# Altium schematic symbol library Connectors.SchLib: 29 symbols
Pins are listed as number, name and electrical type; pins without a type are passive.

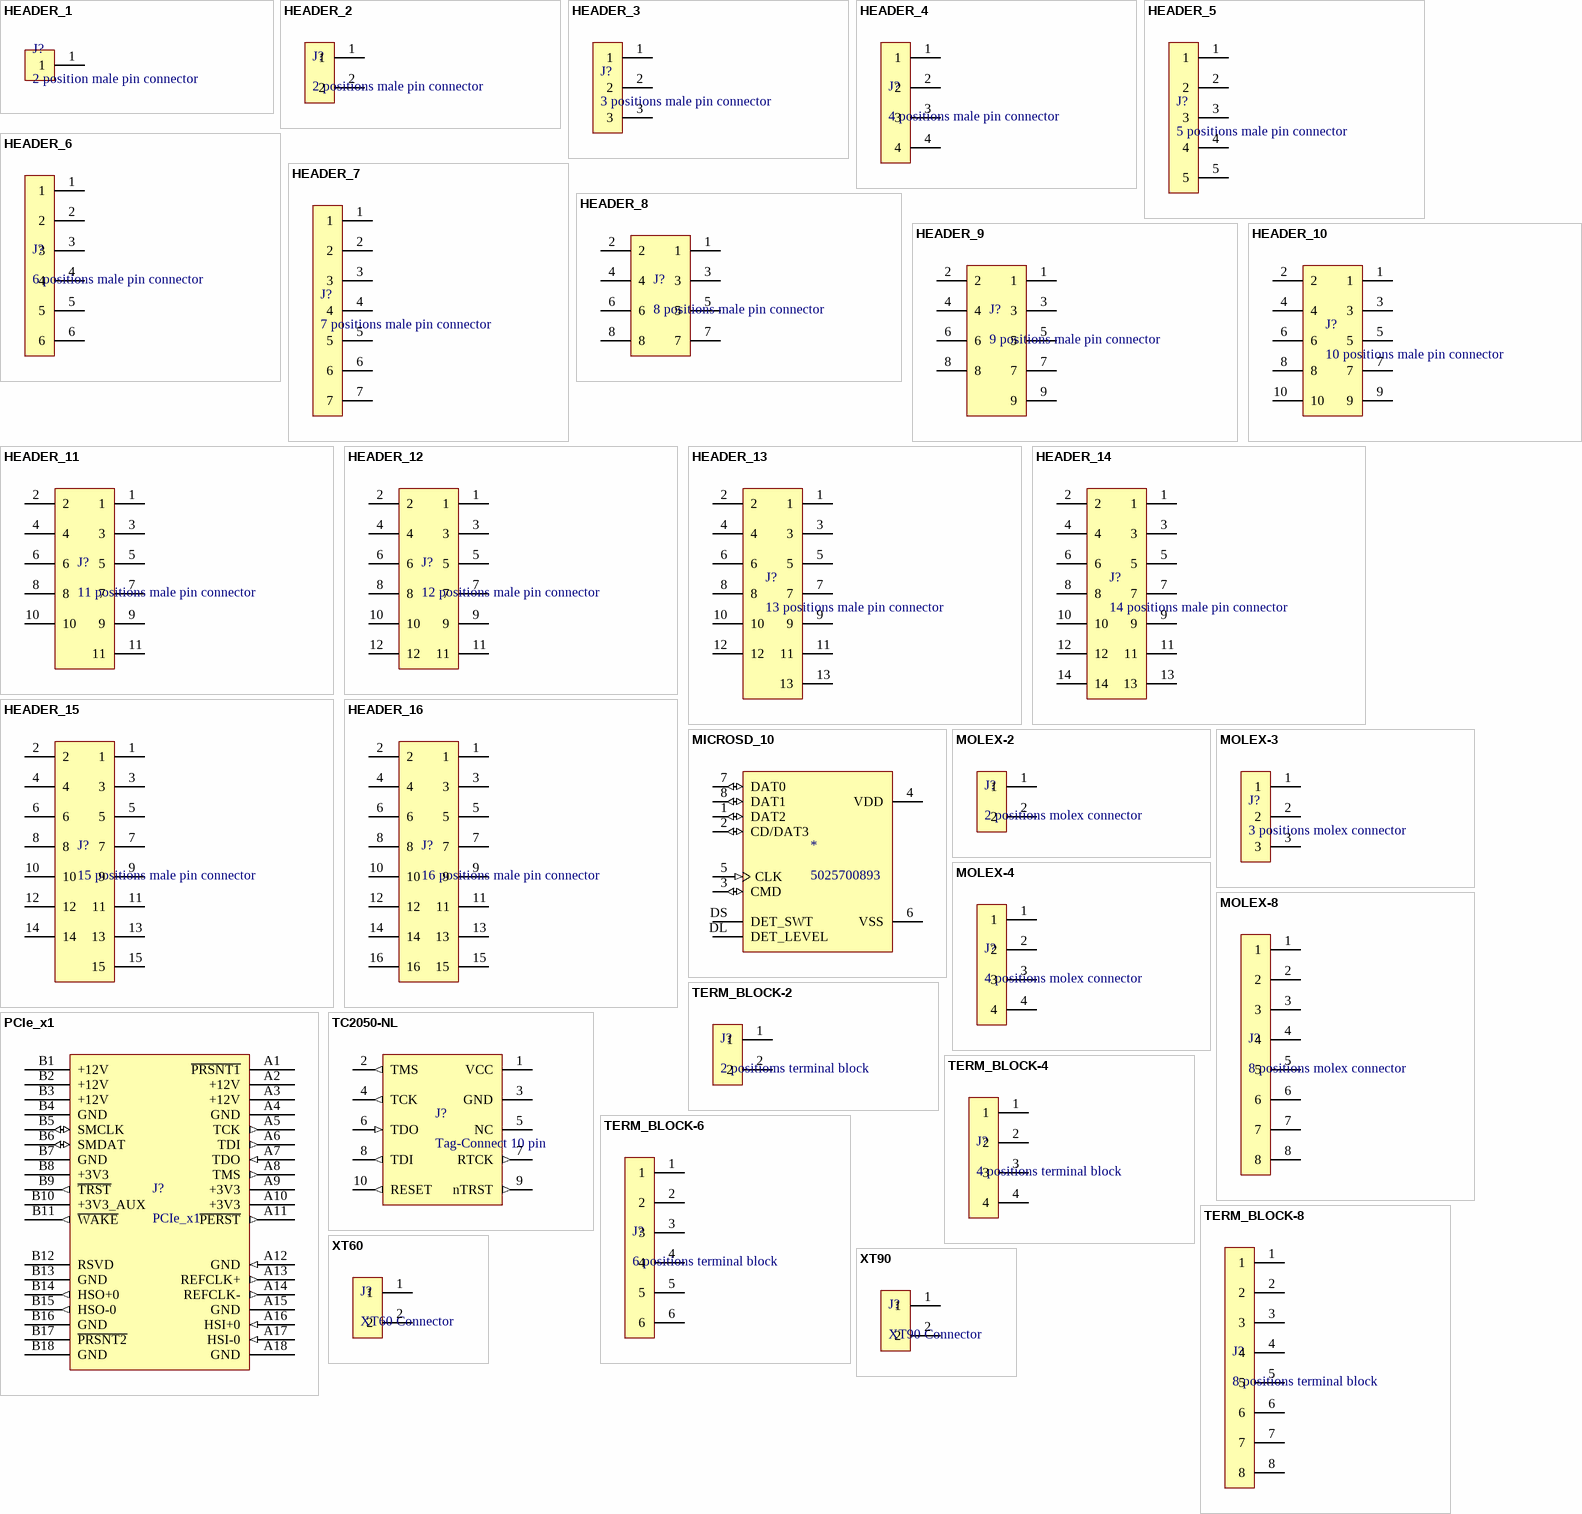
[diagram p0: symbols HEADER_1 to XT90]

## HEADER_1
designator J?, comment 2 position male pin connector
footprint HEADER-1_100MIL (Based on 68000-101HLF)
pins: 1

## HEADER_2
designator J?, comment 2 positions male pin connector
footprint HEADER-2_100MIL
pins: 1, 2

## HEADER_3
designator J?, comment 3 positions male pin connector
footprint HEADER-3_100MIL
pins: 1, 2, 3

## HEADER_4
designator J?, comment 4 positions male pin connector
footprint HEADER-4_100MIL
pins: 1, 2, 3, 4

## HEADER_5
designator J?, comment 5 positions male pin connector
footprint HEADER-5_100MIL
pins: 1, 2, 3, 4, 5

## HEADER_6
designator J?, comment 6 positions male pin connector
footprint HEADER-6_100MIL
pins: 1, 2, 3, 4, 5, 6

## HEADER_7
designator J?, comment 7 positions male pin connector
footprint HEADER-7_100MIL
pins: 1, 2, 3, 4, 5, 6, 7

## HEADER_8
designator J?, comment 8 positions male pin connector
footprint HEADER-8_100MIL
pins: 1, 2, 3, 4, 5, 6, 7, 8

## HEADER_9
designator J?, comment 9 positions male pin connector
footprint HEADER-9_100MIL
pins: 1, 2, 3, 4, 5, 6, 7, 8, 9

## HEADER_10
designator J?, comment 10 positions male pin connector
footprint HEADER-10_100MIL
pins: 1, 2, 3, 4, 5, 6, 7, 8, 9, 10

## HEADER_11
designator J?, comment 11 positions male pin connector
footprint HEADER-11_100MIL
pins: 1, 2, 3, 4, 5, 6, 7, 8, 9, 10, 11

## HEADER_12
designator J?, comment 12 positions male pin connector
footprint HEADER-12_100MIL
pins: 1, 2, 3, 4, 5, 6, 7, 8, 9, 10, 11, 12

## HEADER_13
designator J?, comment 13 positions male pin connector
footprint HEADER-13_100MIL
pins: 1, 2, 3, 4, 5, 6, 7, 8, 9, 10, 11, 12, 13

## HEADER_14
designator J?, comment 14 positions male pin connector
footprint HEADER-14_100MIL
pins: 1, 2, 3, 4, 5, 6, 7, 8, 9, 10, 11, 12, 13, 14

## HEADER_15
designator J?, comment 15 positions male pin connector
footprint HEADER-15_100MIL
pins: 1, 2, 3, 4, 5, 6, 7, 8, 9, 10, 11, 12, 13, 14, 15

## HEADER_16
designator J?, comment 16 positions male pin connector
footprint HEADER-16_100MIL
pins: 1, 2, 3, 4, 5, 6, 7, 8, 9, 10, 11, 12, 13, 14, 15, 16

## MICROSD_10
designator *, comment 5025700893
10 (8 + 2) Position Card Connector Secure Digital - microSD™ Surface Mount, Right Angle Gold
footprint MICROSD_5025700893
pins: 1 DAT2 (io), 2 CD/DAT3 (io), 3 CMD (io), 4 VDD (power), 5 CLK (in), 6 VSS (power), 7 DAT0 (io), 8 DAT1 (io), DL DET_LEVEL, DS DET_SWT

## MOLEX-2
designator J?, comment 2 positions molex connector
footprint MOLEX-2_2.5mm_RA (2.5mm MOLEX 2-pins Right-Angle Connector, based on 0022057025)
footprint MOLEX-2_2.5mm (2.5mm MOLEX 2-pins Connector, based on 0022035025)
pins: 1, 2

## MOLEX-3
designator J?, comment 3 positions molex connector
footprint MOLEX-3_2.5mm_RA (2.5mm MOLEX 3-pins Right-Angle Connector, based on 0022057035)
footprint MOLEX-3_2.5mm (2.5mm MOLEX 3-pins Connector, based on 0022035035)
pins: 1, 2, 3

## MOLEX-4
designator J?, comment 4 positions molex connector
footprint MOLEX-4_2.5mm_RA (2.5mm MOLEX 4-pins Right-Angle Connector, based on 0022057045)
footprint MOLEX-4_2.5mm (2.5mm MOLEX 4-pins Connector, based on 0022035045)
pins: 1, 2, 3, 4

## MOLEX-8
designator J?, comment 8 positions molex connector
footprint MOLEX-8_2.5mm_RA (2.5mm MOLEX 8-pins Right-Angle Connector, based on 0022057085)
footprint MOLEX-8_2.5mm (2.5mm MOLEX 8-pins Connector, based on 0022035085)
pins: 1, 2, 3, 4, 5, 6, 7, 8

## PCIe_x1
designator J?
footprint PCIe_x1 (https://tools.molex.com/pdm_docs/sd/877159006_sd.pdf)
pins: A1 ~{PRSNT1}, A2 +12V (power), A3 +12V (power), A4 GND (power), A5 TCK (out), A6 TDI (out), A7 TDO (in), A8 TMS (out), A9 +3V3 (power), A10 +3V3 (power), A11 ~{PERST} (out), A12 GND (in), A13 REFCLK+ (out), A14 REFCLK- (out), A15 GND (power), A16 HSI+0 (in), A17 HSI-0 (in), A18 GND (power), B1 +12V (power), B2 +12V (power), B3 +12V (power), B4 GND (power), B5 SMCLK (io), B6 SMDAT (io), B7 GND (power), B8 +3V3 (power), B9 ~{TRST} (out), B10 +3V3_AUX (power), B11 ~{WAKE} (out), B12 RSVD, B13 GND (power), B14 HSO+0 (out), B15 HSO-0 (out), B16 GND (power), B17 ~{PRSNT2}, B18 GND (power)

## TC2050-NL
designator J?, comment Tag-Connect 10 pin
footprint TC2050-NL (Target for Tag Copnnect TC2050-xxx-NL)
pins: 1 VCC (power), 2 TMS (out), 3 GND (power), 4 TCK (out), 5 NC, 6 TDO (in), 7 RTCK (out), 8 TDI (out), 9 nTRST (out), 10 RESET (out)

## TERM_BLOCK-2
designator J?, comment 2 positioms terminal block
footprint TERM-2_90_100MIL (Screw-in 2 pos Terminal Block 90deg 100mil pitch, based on 1725656)
footprint TERM-2_45_2.5MM_SC (Spring-Cage 2 pos Terminal Block 45deg entry 2.5mm pitch, based on 1989748)
pins: 1, 2

## TERM_BLOCK-4
designator J?, comment 4 positions terminal block
footprint TERM-4_90_100MIL (Screw-in 4 pos Terminal Block 90deg 100mil pitch, based on 1725672)
footprint TERM-4_45_2.5MM_SC (Spring-Cage 4 pos Terminal Block 45deg entry 2.5mm pitch, based on 1989764)
pins: 1, 2, 3, 4

## TERM_BLOCK-6
designator J?, comment 6 positions terminal block
footprint TERM-6_90_100MIL (Screw-in 6 pos Terminal Block 90deg 100mil pitch, based on 1725698)
footprint TERM-6_45_2.5MM_SC (Spring-Cage 6 pos Terminal Block 45deg entry 2.5mm pitch, based on 1989780)
pins: 1, 2, 3, 4, 5, 6

## TERM_BLOCK-8
designator J?, comment 8 positions terminal block
footprint TERM-8_90_100MIL (Screw-in 8 pos Terminal Block 90deg 100mil pitch, based on 1725711)
footprint TERM-8_45_2.5MM_SC (Spring-Cage 8 pos Terminal Block 45deg entry 2.5mm pitch, based on 1989803)
pins: 1, 2, 3, 4, 5, 6, 7, 8

## XT60
designator J?, comment XT60 Connector
Current (Continuous): 60A; Current (Peak): 100A; Resistance: 0.8 Ohm; Operating Temperature: -20C - 120C
footprint XT60
pins: 1, 2

## XT90
designator J?, comment XT90 Connector
Current (Continuous): 90A; Resistance: 0.8 Ohm; Operating Temperature: -20C - 120C
footprint XT90
pins: 1, 2